# EAGLE library part JACK_STEREOSW (library _mtvl.connectors)
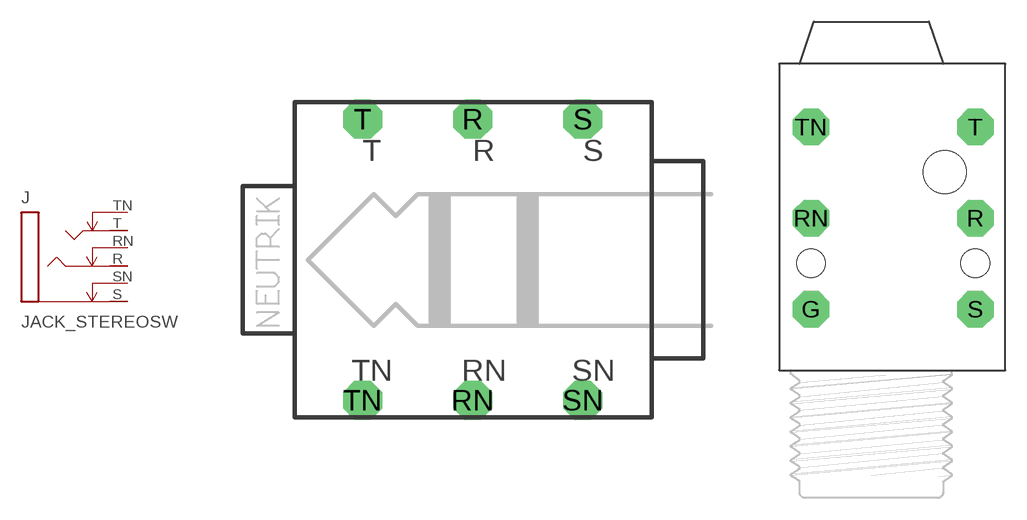
[diagram p0: symbol with the pads of NMJ6HCD2; footprints NMJ6HCD2, NRJ6HF]

Designator prefix J

## JACK_STEREOSW  [NMJ6HCD2]
R  R  pas
RN  RN  pas
S  S  pas
SN  SN  pas
T  T  pas
TN  TN  pas

## JACK_STEREOSWSLIM  [NRJ6HF]
G  SN  pas
R  R  pas
RN  RN  pas
S  S  pas
T  T  pas
TN  TN  pas

## JACK_STEREOSWS  [NMJ6HC-S]
Pads as for NMJ6HCD2

## JACK_STEREOSW1  [NMJ6HC-S]
Pads as for NMJ6HCD2

## JACK_STEREOSWNJ5FD-V  [NJ5FD-V]
R  R  pas
RN  RN  pas
S  S  pas
SH1  S  pas
SH2  SN  pas
T  T  pas
TN  TN  pas

## JACK_STEREOSWACJS  [ACJS-MHOM]
Pads as for NMJ6HCD2

## Footprint NMJ6HCD2 (pad centres in mm)
drill 1.5 octagon: R 0,8.115; RN 0,-8.115; S 6.35,8.115; SN 6.35,-8.115; T -6.35,8.115; TN -6.35,-8.115

## Footprint NRJ6HF (pad centres in mm)
Neutrik Slim Jack NRJ6HF
drill 1.6 pad 2.54 octagon: G -4.2,-5.91; R 7.23,0.44; RN -4.2,0.44; S 7.23,-5.91; T 7.23,6.79; TN -4.2,6.79
hole 2 at 7.23,-2.71
hole 2 at -4.2,-2.71
hole 3 at 5.1,3.64

## Footprint NMJ6HC-S (pad centres in mm)
drill 1.5 square: R -8.115,0; RN 8.115,0; S -8.115,6.35; SN 8.115,6.35; T -8.115,-6.35; TN 8.115,-6.35

## Footprint NJ5FD-V (pad centres in mm)
drill 1.6 octagon: R -5.08,0; S 5.08,0; SH2 3.175,6.35
drill 1.2 octagon: RN -4.445,4.445; T 0,-5.715; TN 5.08,-5.08
drill 2.1 octagon: SH1 -3.81,-3.81
hole 6.35 at 0,0

## Footprint ACJS-MHOM (pad centres in mm)
Amphenol ACJS-MHOM https://www.arrow.com/en/products/acjs-mhom/amphenol
drill 1.524 octagon: R -7.239,0.079; RN 4.191,0.079; S -7.239,6.429; SN 4.191,6.429; T -7.239,-6.271; TN 4.191,-6.271